# EAGLE library part ATTINY (library quentin)
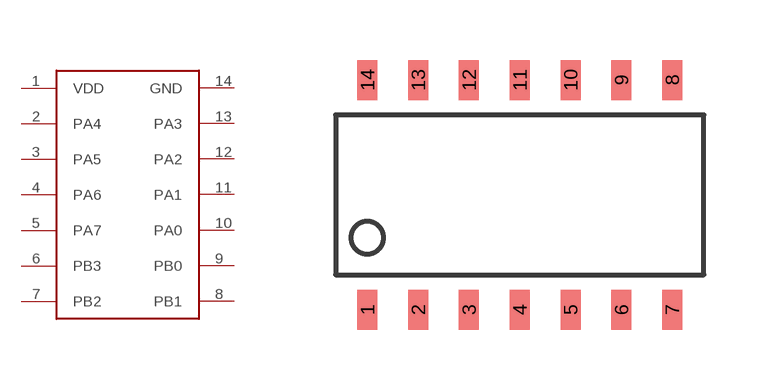
[diagram p15: symbol with the pads of SOIC-14; footprint SOIC-14]

Designator prefix -

## ATTINY414  [SOIC-14]
1  VDD
2  PA4
3  PA5
4  PA6
5  PA7
6  PB3
7  PB2
8  PB1
9  PB0
10  PA0
11  PA1
12  PA2
13  PA3
14  GND

## Footprint SOIC-14 (pad centres in mm)
smd 0.5 x 1: 1 0,0; 2 1.27,0; 3 2.54,0; 4 3.81,0; 5 5.08,0; 6 6.35,0; 7 7.62,0; 8 7.62,5.75; 9 6.35,5.75; 10 5.08,5.75; 11 3.81,5.75; 12 2.54,5.75; 13 1.27,5.75; 14 0,5.75